# EAGLE library part OPT101 (library evolvulator)
Photodiode Changed DIP package to have round (not oval) pin pads http://www.ti.com/lit/ds/symlink/opt101.pdf
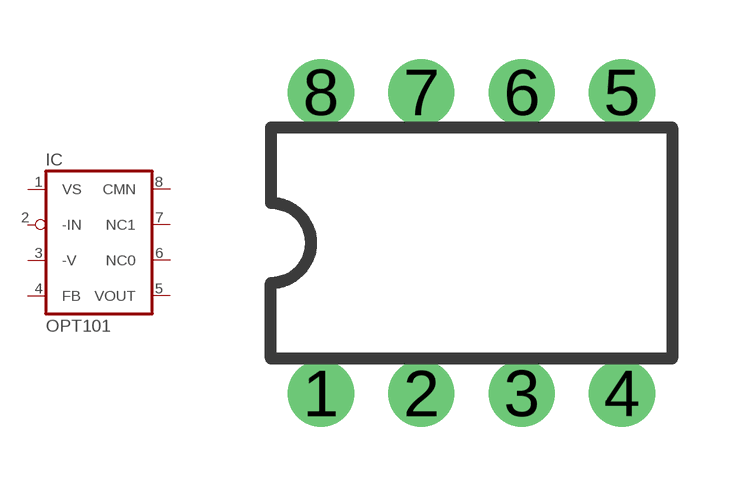
[diagram p0: symbol with the pads of DIL08-ROUND; footprint DIL08-ROUND]

Designator prefix IC

## OPT101N  [DIL08-ROUND]
1  VS  in
2  -IN  in
3  -V  in
4  FB  pwr
5  VOUT  pwr
6  NC0  in
7  NC1  in
8  CMN  out

## Footprint DIL08-ROUND (pad centres in mm)
Dual In Line Package
drill 0.813 pad 1.676: 1 -3.81,-3.81; 2 -1.27,-3.81; 3 1.27,-3.81; 4 3.81,-3.81; 5 3.81,3.81; 6 1.27,3.81; 7 -1.27,3.81; 8 -3.81,3.81